# EAGLE library part 7SEGDIGITS (library NYclock)
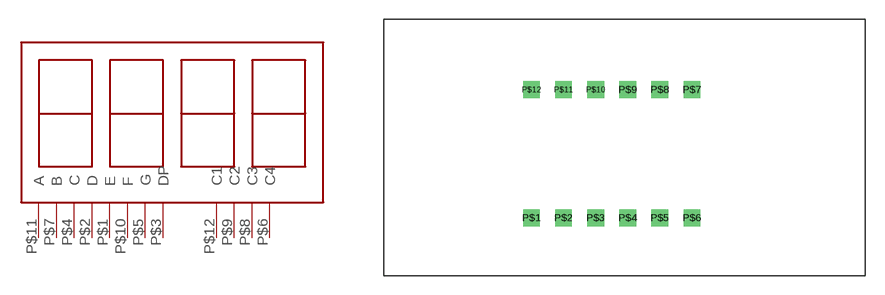
[diagram p1: symbol with the pads of 7SEGDIGITS; footprint 7SEGDIGITS]

Designator prefix -

## 7SEGDIGITS  [7SEGDIGITS]
P$1  E
P$2  D
P$3  DP
P$4  C
P$5  G
P$6  C4
P$7  B
P$8  C3
P$9  C2
P$10  F
P$11  A
P$12  C1

## Footprint 7SEGDIGITS (pad centres in mm)
drill 0.8 square: P$1 -7.5,-5; P$2 -5,-5; P$3 -2.5,-5; P$4 0,-5; P$5 2.5,-5; P$6 5,-5; P$7 5,5; P$8 2.5,5; P$9 0,5; P$10 -2.5,5; P$11 -5,5; P$12 -7.5,5